# Altium integrated library IRS21867S.IntLib: 1 symbol
Pins are listed as number, name and electrical type; pins without a type are passive.

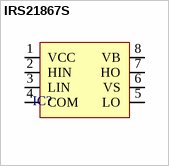
[diagram p0: symbol IRS21867S]

## IRS21867S
designator IC?
IRS21867S
footprint IRS21867S
pins: 1 VCC, 2 HIN, 3 LIN, 4 COM, 5 LO, 6 VS, 7 HO, 8 VB